# Altium schematic symbol library Regulator_Switching.SchLib: 1279 symbols (part 4 of 14)
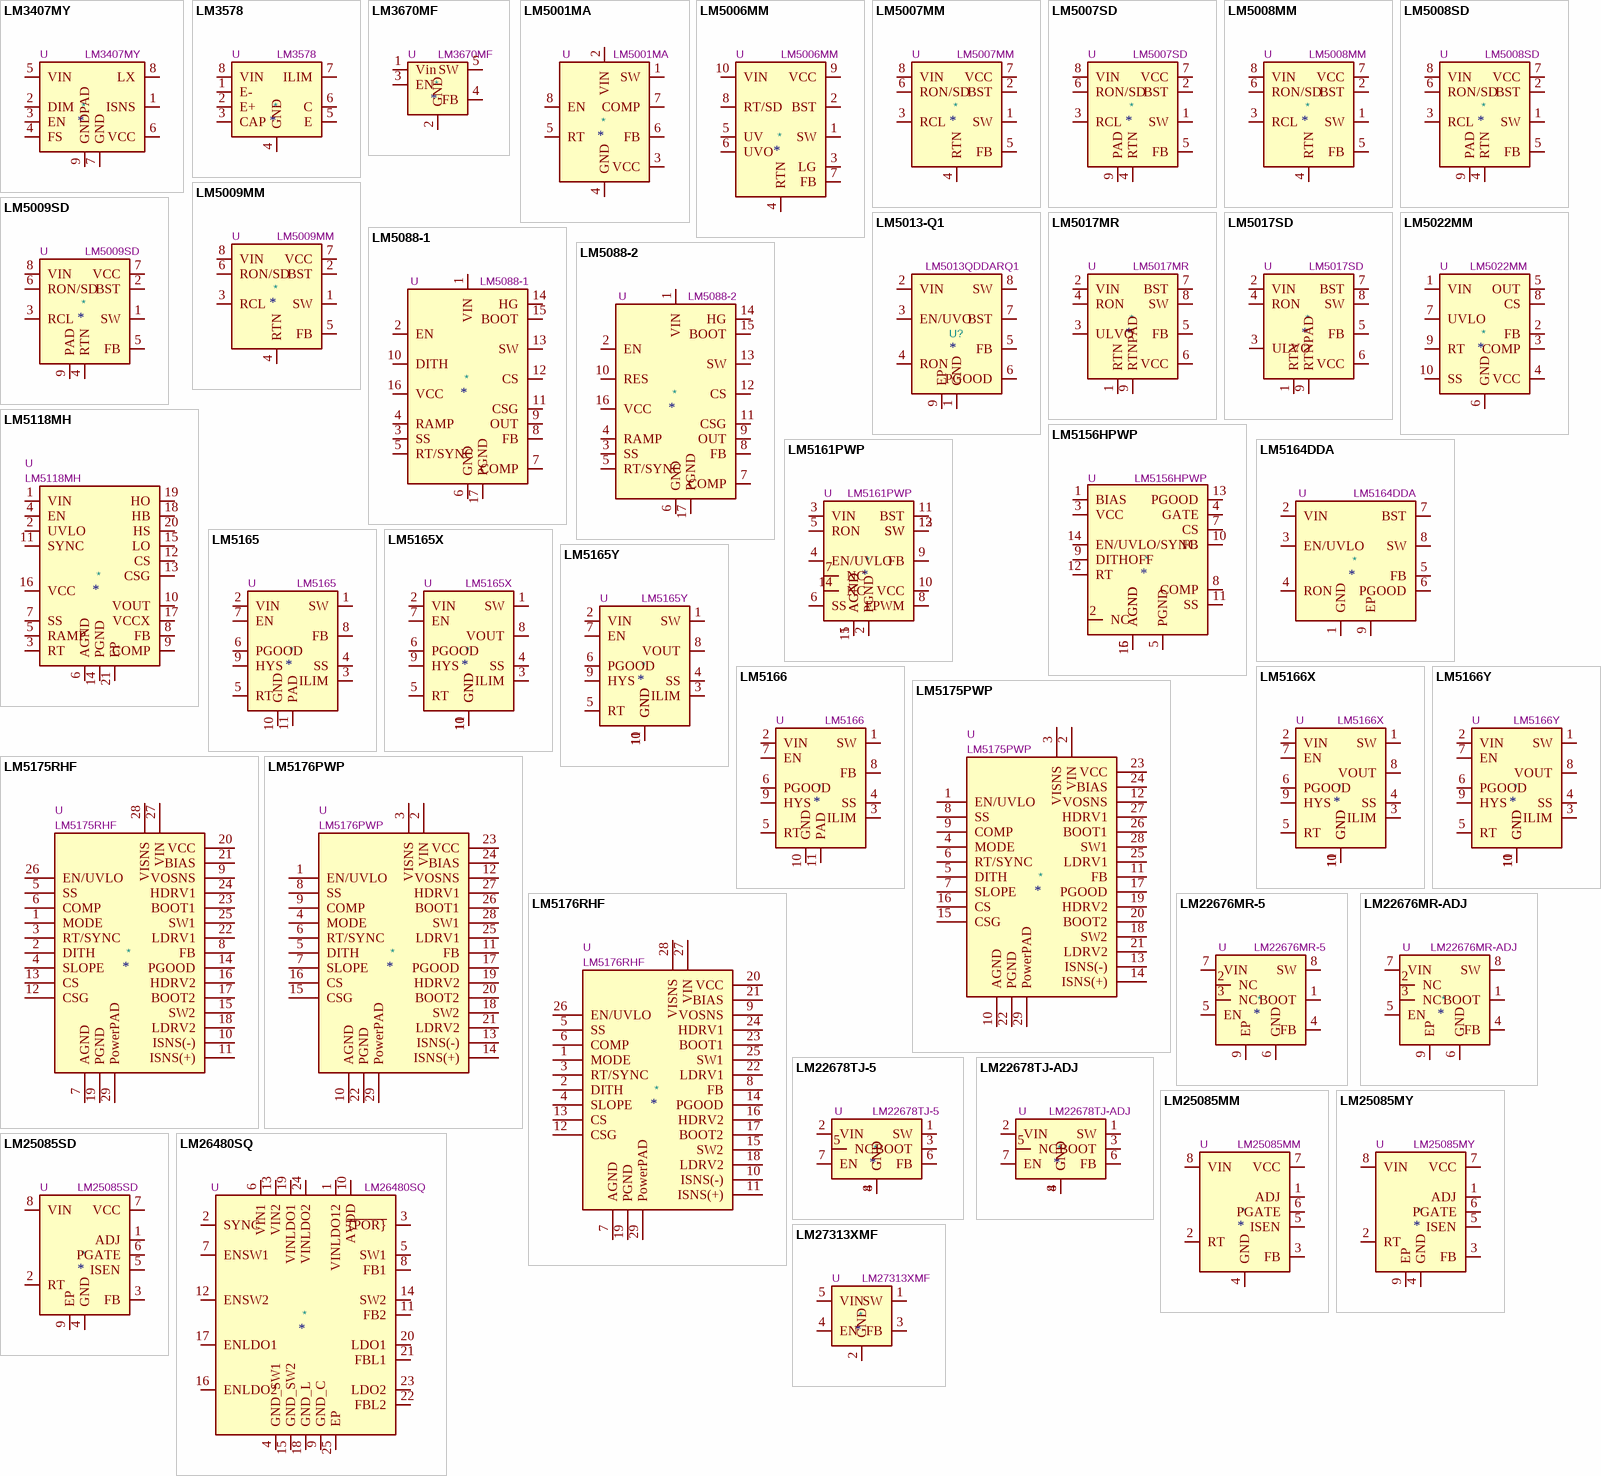
[diagram p35: symbols LM3407MY to LM27313XMF]

## LM5176RHF
designator *  value LM5176RHF  Reference: U
55-V wide Vin synchronous 4-switch Buck-Boost controller, QFN-28 package; ki_keywords: Buck Boost step-up step-down; ki_fp_filters: VQFN*4x5mm*P0.5*; Footprint: Package_DFN_QFN:VQFN-28-1EP_4x5mm_P0.5mm_EP2.55x3.55mm; Datasheet: http://www.ti.com/lit/ds/symlink/lm5176.pdf; Description_: 55-V wide Vin synchronous 4-switch Buck-Boost controller, QFN-28 package
pins: 1 MODE, 2 DITH, 3 RT/SYNC, 4 SLOPE, 5 SS, 6 COMP, 7 AGND, 8 FB, 9 VOSNS, 10 ISNS(-), 11 ISNS(+), 12 CSG, 13 CS, 14 PGOOD, 15 SW2, 16 HDRV2, 17 BOOT2, 18 LDRV2, 19 PGND, 20 VCC, 21 BIAS, 22 LDRV1, 23 BOOT1, 24 HDRV1, 25 SW1, 26 EN/UVLO, 27 VIN, 28 VISNS, 29 PowerPAD

## LM22676MR-5
designator *  value LM22676MR-5  Reference: U
3A Step-Down Switching Voltage Regulater, 4.5-42V Input, 5V Output, 500kHz Switching Frequency, SOIC-8; ki_keywords: DC/DC Buck Converter 3A; ki_fp_filters: TI*SO*PowerPAD*; Footprint: Package_SO:TI_SO-PowerPAD-8; Datasheet: http://www.ti.com/lit/ds/symlink/lm22676.pdf; Description_: 3A Step-Down Switching Voltage Regulater, 4.5-42V Input, 5V Output, 500kHz Switching Frequency, SOIC-8
pins: 1 BOOT, 2 NC, 3 NC, 4 FB, 5 EN, 6 GND, 7 VIN, 8 SW, 9 EP

## LM22676MR-ADJ
designator *  value LM22676MR-ADJ  Reference: U
3A Step-Down Switching Voltage Regulater, 4.5-42V Input, Adjustable Output, 500kHz Switching Frequency, SOIC-8; ki_keywords: DC/DC Buck Converter 3A; ki_fp_filters: TI*SO*PowerPAD*; Footprint: Package_SO:TI_SO-PowerPAD-8; Datasheet: http://www.ti.com/lit/ds/symlink/lm22676.pdf; Description_: 3A Step-Down Switching Voltage Regulater, 4.5-42V Input, Adjustable Output, 500kHz Switching Frequency, SOIC-8
pins: 1 BOOT, 2 NC, 3 NC, 4 FB, 5 EN, 6 GND, 7 VIN, 8 SW, 9 EP

## LM22678TJ-5
designator *  value LM22678TJ-5  Reference: U
5A Step-Down Switching Voltage Regulater, 4.5-42V Input, 5V Output, 500kHz Switching Frequency, TO-263; ki_keywords: DC/DC Buck Converter 5A; ki_fp_filters: TO?263*; Footprint: Package_TO_SOT_SMD:TO-263-7_TabPin8; Datasheet: https://www.ti.com/lit/ds/symlink/lm22678.pdf; Description_: 5A Step-Down Switching Voltage Regulater, 4.5-42V Input, 5V Output, 500kHz Switching Frequency, TO-263
pins: 1 SW, 2 VIN, 3 BOOT, 4 GND, 5 NC, 6 FB, 7 EN, 8 GND

## LM22678TJ-ADJ
designator *  value LM22678TJ-ADJ  Reference: U
5A Step-Down Switching Voltage Regulater, 4.5-42V Input, Adjustable Output, 500kHz Switching Frequency, TO-263; ki_keywords: DC/DC Buck Converter 5A; ki_fp_filters: TO?263*; Footprint: Package_TO_SOT_SMD:TO-263-7_TabPin8; Datasheet: https://www.ti.com/lit/ds/symlink/lm22678.pdf; Description_: 5A Step-Down Switching Voltage Regulater, 4.5-42V Input, Adjustable Output, 500kHz Switching Frequency, TO-263
pins: 1 SW, 2 VIN, 3 BOOT, 4 GND, 5 NC, 6 FB, 7 EN, 8 GND

## LM25085MM
designator *  value LM25085MM  Reference: U
42V Constant On-Time PFET Buck Switching Controller, MSOP-8; ki_fp_filters: MSOP*3x3mm*P0.65mm*; Footprint: Package_SO:MSOP-8_3x3mm_P0.65mm; Datasheet: http://www.ti.com/lit/ds/symlink/lm25085.pdf; Description_: 42V Constant On-Time PFET Buck Switching Controller, MSOP-8; ki_keywords: buck switching controller
pins: 1 ADJ, 2 RT, 3 FB, 4 GND, 5 ISEN, 6 PGATE, 7 VCC, 8 VIN

## LM25085MY
designator *  value LM25085MY  Reference: U
42V Constant On-Time PFET Buck Switching Controller, MSOP-8-EP; ki_fp_filters: MSOP*1EP*3x3mm*P0.65mm*; Footprint: Package_SO:MSOP-8-1EP_3x3mm_P0.65mm_EP1.73x1.85mm_ThermalVias; Datasheet: http://www.ti.com/lit/ds/symlink/lm25085.pdf; Description_: 42V Constant On-Time PFET Buck Switching Controller, MSOP-8-EP; ki_keywords: buck switching controller
pins: 1 ADJ, 2 RT, 3 FB, 4 GND, 5 ISEN, 6 PGATE, 7 VCC, 8 VIN, 9 EP

## LM25085SD
designator *  value LM25085SD  Reference: U
42V Constant On-Time PFET Buck Switching Controller, WSON-8; ki_fp_filters: WSON*1EP*3x3mm*P0.5mm*EP1.6x2.0mm*; Footprint: Package_SON:WSON-8-1EP_3x3mm_P0.5mm_EP1.6x2.0mm; Datasheet: http://www.ti.com/lit/ds/symlink/lm25085.pdf; Description_: 42V Constant On-Time PFET Buck Switching Controller, WSON-8; ki_keywords: buck switching controller
pins: 1 ADJ, 2 RT, 3 FB, 4 GND, 5 ISEN, 6 PGATE, 7 VCC, 8 VIN, 9 EP

## LM26480SQ
designator *  value LM26480SQ  Reference: U
Dual 1.5A 2MHz Buck Regulators and Dual 300mA LDOs, WQFN-24; ki_keywords: Dual Buck Regulator LDO 2MHz 1.5A 300mA; ki_fp_filters: WQFN*1EP*4x4mm*P0.5mm*; Footprint: Package_DFN_QFN:WQFN-24-1EP_4x4mm_P0.5mm_EP2.6x2.6mm; Datasheet: http://www.ti.com/lit/ds/symlink/lm26480.pdf; Description_: Dual 1.5A 2MHz Buck Regulators and Dual 300mA LDOs, WQFN-24
pins: 1 VINLDO12, 2 SYNC, 3 ~{{POR}}, 4 GND_SW1, 5 SW1, 6 VIN1, 7 ENSW1, 8 FB1, 9 GND_C, 10 AVDD, 11 FB2, 12 ENSW2, 13 VIN2, 14 SW2, 15 GND_SW2, 16 ENLDO2, 17 ENLDO1, 18 GND_L, 19 VINLDO1, 20 LDO1, 21 FBL1, 22 FBL2, 23 LDO2, 24 VINLDO2, 25 EP

## LM27313XMF
designator *  value LM27313XMF  Reference: U
1A, 28Vout Boost Voltage Regulator, 1.6MHz Frequency, SOT-23-5; ki_keywords: Miniature Step-Up Boost Voltage Regulator; ki_fp_filters: SOT?23*; Footprint: Package_TO_SOT_SMD:SOT-23-5; Datasheet: http://www.ti.com/lit/ds/symlink/lm27313.pdf; Description_: 1A, 28Vout Boost Voltage Regulator, 1.6MHz Frequency, SOT-23-5
pins: 1 SW, 2 GND, 3 FB, 4 EN, 5 VIN

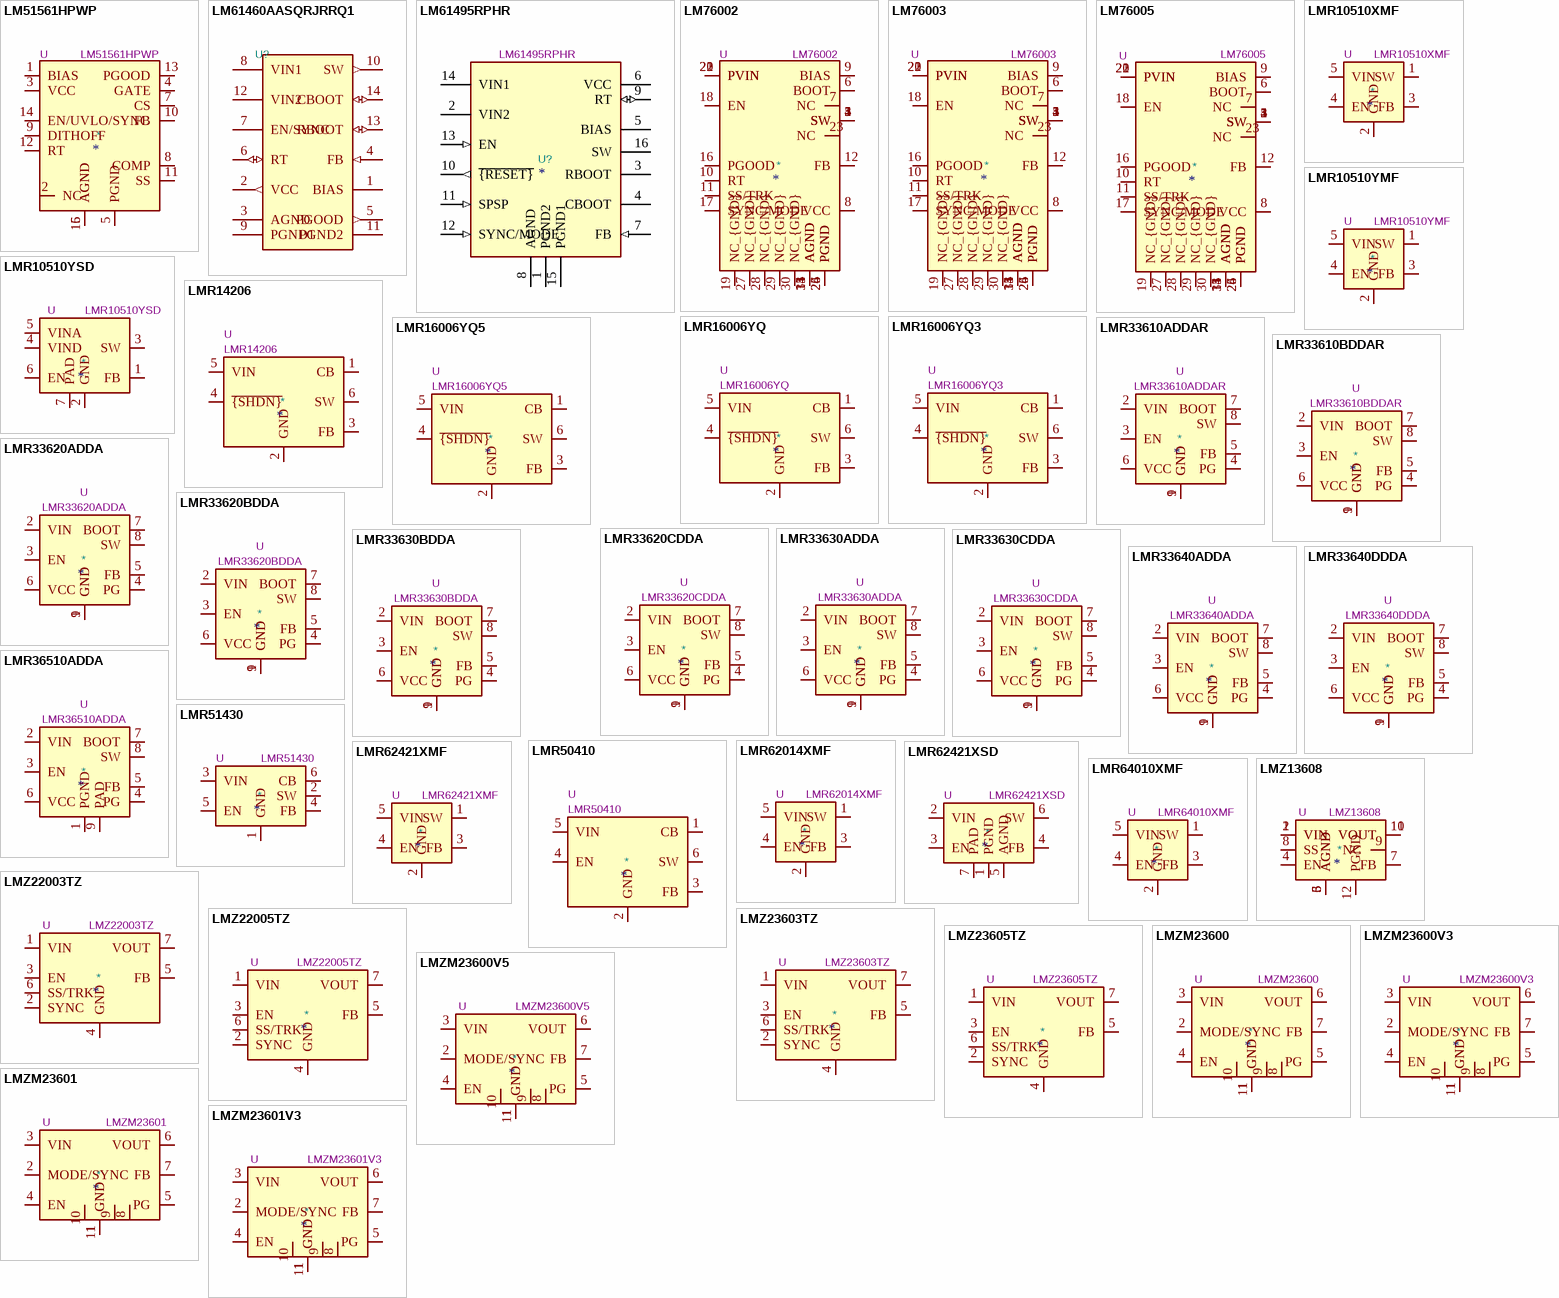
[diagram p8: symbols LM51561HPWP to LMZM23601V3]

## LM51561HPWP
designator *  value LM51561HPWP  Reference: U
65V Wide Vin non-synchronous Boost/SEPIC/Flyback controller (hiccup enabled), HTSSOP-14; ki_keywords: Boost SEPIC Flyback converter; ki_fp_filters: *HTSSOP*1EP?4.4x5mm?P0.65mm*Mask3.155x3.255mm*; Footprint: Package_SO:Texas_HTSSOP-14-1EP_4.4x5mm_P0.65mm_EP3.4x5mm_Mask3.155x3.255mm_ThermalVias; Datasheet: https://www.ti.com/lit/ds/symlink/lm5156h.pdf; Description_: 65V Wide Vin non-synchronous Boost/SEPIC/Flyback controller (hiccup enabled), HTSSOP-14
pins: 1 BIAS, 2 NC, 3 VCC, 4 GATE, 5 PGND, 6 AGND, 7 CS, 8 COMP, 9 DITHOFF, 10 FB, 11 SS, 12 RT, 13 PGOOD, 14 EN/UVLO/SYNC, 15 AGND

## LM61460AASQRJRRQ1
designator U?  (value not drawn)
Manufacturer: Texas Instruments; Manufacturer Lifecycle Status: ACTIVE; Description_: 0.5A 5V Step-Down DC/DC Power Module in 3.8x3mm, MicroSIP-10; ki_keywords: Step-Down DC/DC Module; ki_fp_filters: Texas*SIL*1EP*3.8x3mm*P0.6mm*; Max Duty Cycle: 87%; Max Junction Temperature (Tj): 150°C; Max Supply Voltage: 36V; Min Supply Voltage: 3V; Nominal Supply Current: 600nA; Number of Outputs: 1; Output Current: 6A; Topology: Buck; DNP: No; Reference: U; Footprint: Package_LGA:Texas_SIL0010A_MicroSiP-10-1EP_3.8x3mm_P0.6mm_EP0.7x2.9mm_ThermalVias; Datasheet: http://www.ti.com/lit/ds/symlink/lmzm23600.pdf; Category: Voltage Regulators - Switching; Height: 1mm; Length: 4mm; Lifecycle Status: Production; Manufacturer Part Number: LM61460AASQRJRRQ1; Max Operating Temperature: 150°C; Min Operating Temperature: -40°C; Pins: 14; RoHS: Compliant; Schedule B: 8542390000|8542390000|8542390000|8542390000|8542390000; Thickness: 900µm; Width: 3.5mm; Supplier 1: Mouser; Supplier Part Number 1: 595-M61460AASQRJRRQ1; Supplier Packaging 1: Tape & Reel; Supplier Unit Price 1: $5.93; Supplier Location 1: US; Value: LM61460AASQRJRRQ1
footprint VQFN-HR-14-4x3.50mm_P0.5mm
pins: 1 BIAS (power), 2 VCC (out), 3 AGND (power), 4 FB (in), 5 PGOOD (out), 6 RT (io), 7 EN/SYNC, 8 VIN1 (power), 9 PGND1 (power), 10 SW (out), 11 PGND2 (power), 12 VIN2 (power), 13 RBOOT (io), 14 CBOOT (io)

## LM61495RPHR
designator U?  value LM61495RPHR
10-A automotive buck converter optimized for power density and low EMI; Manufacturer: Texas Instruments; Manufacturer Lifecycle Status: ACTIVE; ki_keywords: Step-Down DC/DC Module; ki_fp_filters: Texas*NDW*; Reference: U; DNP: P; Datasheet: https://www.ti.com/product/LM61495#order-quality; Description_: 10-A automotive buck converter optimized for power density and low EMI; Category: Voltage Regulators - Switching; Height: 1mm; Length: 4.5mm; Lifecycle Status: Production; Manufacturer Part Number: LM61495RPHR; Pins: 16; RoHS: Compliant; Thickness: 900µm; Topology: Buck; Width: 3.5mm; Supplier 1: Mouser; Supplier Part Number 1: 595-LM61495RPHR; Supplier Packaging 1: Tape & Reel; Supplier Unit Price 1: $5.83; Supplier Location 1: US
footprint VQFN-16-1EP_4x4mm_P0.5mm_RPH
pins: 1 PGND2 (power), 2 VIN2 (power), 3 RBOOT, 4 CBOOT, 5 BIAS, 6 VCC (power), 7 FB (in), 8 AGND (power), 9 RT (io), 10 ~{{RESET}} (out), 11 SPSP (in), 12 SYNC/MODE (in), 13 EN (in), 14 VIN1 (power), 15 PGND1 (power), 16 SW

## LM76002
designator *  value LM76002  Reference: U
2.5A synchronous buck regulator, 3.5..60Vin, 300kHz..2.2MHz switching frequency, CCM/DCM & PFM at light load, WQFN-30; ki_keywords: texas switching step-down; ki_fp_filters: Texas*RNP0030B*4x6mm*P0.5mm*EP1.8x4.5mm*; Footprint: Package_DFN_QFN:Texas_RNP0030B_WQFN-30-1EP_4x6mm_P0.5mm_EP1.8x4.5mm_ThermalVias; Datasheet: https://www.ti.com/lit/ds/symlink/lm76002.pdf; Description_: 2.5A synchronous buck regulator, 3.5..60Vin, 300kHz..2.2MHz switching frequency, CCM/DCM & PFM at light load, WQFN-30
pins: 1 SW, 2 SW, 3 SW, 4 SW, 5 SW, 6 BOOT, 7 NC, 8 VCC, 9 BIAS, 10 RT, 11 SS/TRK, 12 FB, 13 AGND, 14 AGND, 15 AGND, 16 PGOOD, 17 SYNC/MODE, 18 EN, 19 NC_{GND}, 20 PVIN, 21 PVIN, 22 PVIN, 23 NC, 24 PGND, 25 PGND, 26 PGND, 27 NC_{GND}, 28 NC_{GND}, 29 NC_{GND}, 30 NC_{GND}, 31 AGND

## LM76003
designator *  value LM76003  Reference: U
3.5A synchronous buck regulator, 3.5..60Vin, 300kHz..2.2MHz switching frequency, CCM/DCM & PFM at light load, WQFN-30; ki_keywords: texas switching step-down; ki_fp_filters: Texas*RNP0030B*4x6mm*P0.5mm*EP1.8x4.5mm*; Footprint: Package_DFN_QFN:Texas_RNP0030B_WQFN-30-1EP_4x6mm_P0.5mm_EP1.8x4.5mm_ThermalVias; Datasheet: https://www.ti.com/lit/ds/symlink/lm76003.pdf; Description_: 3.5A synchronous buck regulator, 3.5..60Vin, 300kHz..2.2MHz switching frequency, CCM/DCM & PFM at light load, WQFN-30
pins: 1 SW, 2 SW, 3 SW, 4 SW, 5 SW, 6 BOOT, 7 NC, 8 VCC, 9 BIAS, 10 RT, 11 SS/TRK, 12 FB, 13 AGND, 14 AGND, 15 AGND, 16 PGOOD, 17 SYNC/MODE, 18 EN, 19 NC_{GND}, 20 PVIN, 21 PVIN, 22 PVIN, 23 NC, 24 PGND, 25 PGND, 26 PGND, 27 NC_{GND}, 28 NC_{GND}, 29 NC_{GND}, 30 NC_{GND}, 31 AGND

## LM76005
designator *  value LM76005  Reference: U
5A synchronous buck regulator, 3.5..60Vin, 200kHz..500kHz switching frequency, CCM/DCM & PFM at light load, WQFN-30; ki_keywords: texas switching step-down; ki_fp_filters: Texas*RNP0030B*4x6mm*P0.5mm*EP1.8x4.5mm*; Footprint: Package_DFN_QFN:Texas_RNP0030B_WQFN-30-1EP_4x6mm_P0.5mm_EP1.8x4.5mm_ThermalVias; Datasheet: https://www.ti.com/lit/ds/symlink/lm76005.pdf; Description_: 5A synchronous buck regulator, 3.5..60Vin, 200kHz..500kHz switching frequency, CCM/DCM & PFM at light load, WQFN-30
pins: 1 SW, 2 SW, 3 SW, 4 SW, 5 SW, 6 BOOT, 7 NC, 8 VCC, 9 BIAS, 10 RT, 11 SS/TRK, 12 FB, 13 AGND, 14 AGND, 15 AGND, 16 PGOOD, 17 SYNC/MODE, 18 EN, 19 NC_{GND}, 20 PVIN, 21 PVIN, 22 PVIN, 23 NC, 24 PGND, 25 PGND, 26 PGND, 27 NC_{GND}, 28 NC_{GND}, 29 NC_{GND}, 30 NC_{GND}, 31 AGND

## LMR10510XMF
designator *  value LMR10510XMF  Reference: U
1A, 5.5V Step-Down Voltage Regulator, 1.6MHz Frequency, SOT-23-5; ki_keywords: Miniature Step-Down Buck Voltage Regulator; ki_fp_filters: SOT?23*; Footprint: Package_TO_SOT_SMD:SOT-23-5; Datasheet: http://www.ti.com/lit/ds/symlink/lmr10510.pdf; Description_: 1A, 5.5V Step-Down Voltage Regulator, 1.6MHz Frequency, SOT-23-5
pins: 1 SW, 2 GND, 3 FB, 4 EN, 5 VIN

## LMR10510YMF
designator *  value LMR10510YMF  Reference: U
1A, 5.5V Step-Down Voltage Regulator, 3MHz Frequency, SOT-23-5; ki_keywords: Miniature Step-Down Buck Voltage Regulator; ki_fp_filters: SOT?23*; Footprint: Package_TO_SOT_SMD:SOT-23-5; Datasheet: http://www.ti.com/lit/ds/symlink/lmr10510.pdf; Description_: 1A, 5.5V Step-Down Voltage Regulator, 3MHz Frequency, SOT-23-5
pins: 1 SW, 2 GND, 3 FB, 4 EN, 5 VIN

## LMR10510YSD
designator *  value LMR10510YSD  Reference: U
1A, 5.5V Step-Down Voltage Regulator, 3MHz Frequency, WSON-6; ki_keywords: Miniature Step-Down Buck Voltage Regulator; ki_fp_filters: WSON*EP*3x3mm*P0.95mm*; Footprint: Package_SON:WSON-6-1EP_3x3mm_P0.95mm; Datasheet: http://www.ti.com/lit/ds/symlink/lmr10510.pdf; Description_: 1A, 5.5V Step-Down Voltage Regulator, 3MHz Frequency, WSON-6
pins: 1 FB, 2 GND, 3 SW, 4 VIND, 5 VINA, 6 EN, 7 PAD

## LMR14206
designator *  value LMR14206  Reference: U
Simple Switcher Buck Regulator, Vin=4.5-42V, Iout=600mA, Adjustable output voltage, SOT-23-6 package; ki_keywords: simple-switcher buck step-down voltage-regulator; ki_fp_filters: SOT?23*; Footprint: Package_TO_SOT_SMD:SOT-23-6; Datasheet: http://www.ti.com/lit/ds/symlink/lmr14206.pdf; Description_: Simple Switcher Buck Regulator, Vin=4.5-42V, Iout=600mA, Adjustable output voltage, SOT-23-6 package
pins: 1 CB, 2 GND, 3 FB, 4 ~{{SHDN}}, 5 VIN, 6 SW

## LMR16006YQ
designator *  value LMR16006YQ  Reference: U
Simple Switcher Buck Regulator, Vin=4-40V, Iout=600mA, Adjustable output voltage, SOT-23-6 package; ki_keywords: simple-switcher buck step-down voltage-regulator; ki_fp_filters: SOT?23*; Footprint: Package_TO_SOT_SMD:SOT-23-6; Datasheet: http://www.ti.com/lit/ds/symlink/lmr16006y-q1.pdf; Description_: Simple Switcher Buck Regulator, Vin=4-40V, Iout=600mA, Adjustable output voltage, SOT-23-6 package
pins: 1 CB, 2 GND, 3 FB, 4 ~{{SHDN}}, 5 VIN, 6 SW

## LMR16006YQ3
designator *  value LMR16006YQ3  Reference: U
Simple Switcher Buck Regulator, Vin=4-40V, Iout=600mA, Fixed 3.3V output voltage, SOT-23-6 package; ki_keywords: simple-switcher buck step-down voltage-regulator; ki_fp_filters: SOT?23*; Footprint: Package_TO_SOT_SMD:SOT-23-6; Datasheet: http://www.ti.com/lit/ds/symlink/lmr16006y-q1.pdf; Description_: Simple Switcher Buck Regulator, Vin=4-40V, Iout=600mA, Fixed 3.3V output voltage, SOT-23-6 package
pins: 1 CB, 2 GND, 3 FB, 4 ~{{SHDN}}, 5 VIN, 6 SW

## LMR16006YQ5
designator *  value LMR16006YQ5  Reference: U
Simple Switcher Buck Regulator, Vin=4-40V, Iout=600mA, Fixed 5.0V output voltage, SOT-23-6 package; ki_keywords: simple-switcher buck step-down voltage-regulator; ki_fp_filters: SOT?23*; Footprint: Package_TO_SOT_SMD:SOT-23-6; Datasheet: http://www.ti.com/lit/ds/symlink/lmr16006y-q1.pdf; Description_: Simple Switcher Buck Regulator, Vin=4-40V, Iout=600mA, Fixed 5.0V output voltage, SOT-23-6 package
pins: 1 CB, 2 GND, 3 FB, 4 ~{{SHDN}}, 5 VIN, 6 SW

## LMR33610ADDAR
designator *  value LMR33610ADDAR  Reference: U
Simple Switcher Synchronous Buck Regulator, Vin=3.8-36V, Iout=1A, F=400kHz, Adjustable output voltage, HSOP-8; ki_keywords: simple-switcher synchronous buck step-down voltage-regulator; ki_fp_filters: Texas*HSOP*1EP*; Footprint: Package_SO:Texas_HSOP-8-1EP_3.9x4.9mm_P1.27mm_ThermalVias; Datasheet: http://www.ti.com/lit/ds/symlink/lmr33610.pdf; Description_: Simple Switcher Synchronous Buck Regulator, Vin=3.8-36V, Iout=1A, F=400kHz, Adjustable output voltage, HSOP-8
pins: 1 GND, 2 VIN, 3 EN, 4 PG, 5 FB, 6 VCC, 7 BOOT, 8 SW, 9 GND

## LMR33610BDDAR
designator *  value LMR33610BDDAR  Reference: U
Simple Switcher Synchronous Buck Regulator, Vin=3.8-36V, Iout=1A, F=1400kHz, Adjustable output voltage, HSOP-8; ki_keywords: simple-switcher synchronous buck step-down voltage-regulator; ki_fp_filters: Texas*HSOP*1EP*; Footprint: Package_SO:Texas_HSOP-8-1EP_3.9x4.9mm_P1.27mm_ThermalVias; Datasheet: http://www.ti.com/lit/ds/symlink/lmr33610.pdf; Description_: Simple Switcher Synchronous Buck Regulator, Vin=3.8-36V, Iout=1A, F=1400kHz, Adjustable output voltage, HSOP-8
pins: 1 GND, 2 VIN, 3 EN, 4 PG, 5 FB, 6 VCC, 7 BOOT, 8 SW, 9 GND

## LMR33620ADDA
designator *  value LMR33620ADDA  Reference: U
Simple Switcher Synchronous Buck Regulator, Vin=3.8-36V, Iout=2A, F=400kHz, Adjustable output voltage, HSOP-8; ki_keywords: simple-switcher synchronous buck step-down voltage-regulator; ki_fp_filters: Texas*HSOP*1EP*; Footprint: Package_SO:Texas_HSOP-8-1EP_3.9x4.9mm_P1.27mm_ThermalVias; Datasheet: http://www.ti.com/lit/ds/symlink/lmr33620.pdf; Description_: Simple Switcher Synchronous Buck Regulator, Vin=3.8-36V, Iout=2A, F=400kHz, Adjustable output voltage, HSOP-8
pins: 1 GND, 2 VIN, 3 EN, 4 PG, 5 FB, 6 VCC, 7 BOOT, 8 SW, 9 GND

## LMR33620BDDA
designator *  value LMR33620BDDA  Reference: U
Simple Switcher Synchronous Buck Regulator, Vin=3.8-36V, Iout=2A, F=1400kHz, Adjustable output voltage, HSOP-8; ki_keywords: simple-switcher synchronous buck step-down voltage-regulator; ki_fp_filters: Texas*HSOP*1EP*; Footprint: Package_SO:Texas_HSOP-8-1EP_3.9x4.9mm_P1.27mm_ThermalVias; Datasheet: http://www.ti.com/lit/ds/symlink/lmr33620.pdf; Description_: Simple Switcher Synchronous Buck Regulator, Vin=3.8-36V, Iout=2A, F=1400kHz, Adjustable output voltage, HSOP-8
pins: 1 GND, 2 VIN, 3 EN, 4 PG, 5 FB, 6 VCC, 7 BOOT, 8 SW, 9 GND

## LMR33620CDDA
designator *  value LMR33620CDDA  Reference: U
Simple Switcher Synchronous Buck Regulator, Vin=3.8-36V, Iout=2A, F=2100kHz, Adjustable output voltage, HSOP-8; ki_keywords: simple-switcher synchronous buck step-down voltage-regulator; ki_fp_filters: Texas*HSOP*1EP*; Footprint: Package_SO:Texas_HSOP-8-1EP_3.9x4.9mm_P1.27mm_ThermalVias; Datasheet: http://www.ti.com/lit/ds/symlink/lmr33640.pdf; Description_: Simple Switcher Synchronous Buck Regulator, Vin=3.8-36V, Iout=2A, F=2100kHz, Adjustable output voltage, HSOP-8
pins: 1 GND, 2 VIN, 3 EN, 4 PG, 5 FB, 6 VCC, 7 BOOT, 8 SW, 9 GND

## LMR33630ADDA
designator *  value LMR33630ADDA  Reference: U
Simple Switcher Synchronous Buck Regulator, Vin=3.8-36V, Iout=3A, F=400kHz, Adjustable output voltage, HSOP-8; ki_keywords: simple-switcher synchronous buck step-down voltage-regulator; ki_fp_filters: Texas*HSOP*1EP*; Footprint: Package_SO:Texas_HSOP-8-1EP_3.9x4.9mm_P1.27mm_ThermalVias; Datasheet: http://www.ti.com/lit/ds/symlink/lmr33630.pdf; Description_: Simple Switcher Synchronous Buck Regulator, Vin=3.8-36V, Iout=3A, F=400kHz, Adjustable output voltage, HSOP-8
pins: 1 GND, 2 VIN, 3 EN, 4 PG, 5 FB, 6 VCC, 7 BOOT, 8 SW, 9 GND

## LMR33630BDDA
designator *  value LMR33630BDDA  Reference: U
Simple Switcher Synchronous Buck Regulator, Vin=3.8-36V, Iout=3A, F=1400kHz, Adjustable output voltage, HSOP-8; ki_keywords: simple-switcher synchronous buck step-down voltage-regulator; ki_fp_filters: Texas*HSOP*1EP*; Footprint: Package_SO:Texas_HSOP-8-1EP_3.9x4.9mm_P1.27mm_ThermalVias; Datasheet: http://www.ti.com/lit/ds/symlink/lmr33630.pdf; Description_: Simple Switcher Synchronous Buck Regulator, Vin=3.8-36V, Iout=3A, F=1400kHz, Adjustable output voltage, HSOP-8
pins: 1 GND, 2 VIN, 3 EN, 4 PG, 5 FB, 6 VCC, 7 BOOT, 8 SW, 9 GND

## LMR33630CDDA
designator *  value LMR33630CDDA  Reference: U
Simple Switcher Synchronous Buck Regulator, Vin=3.8-36V, Iout=3A, F=2100kHz, Adjustable output voltage, HSOP-8; ki_keywords: simple-switcher synchronous buck step-down voltage-regulator; ki_fp_filters: Texas*HSOP*1EP*; Footprint: Package_SO:Texas_HSOP-8-1EP_3.9x4.9mm_P1.27mm_ThermalVias; Datasheet: http://www.ti.com/lit/ds/symlink/lmr33630.pdf; Description_: Simple Switcher Synchronous Buck Regulator, Vin=3.8-36V, Iout=3A, F=2100kHz, Adjustable output voltage, HSOP-8
pins: 1 GND, 2 VIN, 3 EN, 4 PG, 5 FB, 6 VCC, 7 BOOT, 8 SW, 9 GND

## LMR33640ADDA
designator *  value LMR33640ADDA  Reference: U
Simple Switcher Synchronous Buck Regulator, Vin=3.8-36V, Iout=4A, F=400kHz, Adjustable output voltage, HSOP-8; ki_keywords: simple-switcher synchronous buck step-down voltage-regulator; ki_fp_filters: Texas*HSOP*1EP*; Footprint: Package_SO:Texas_HSOP-8-1EP_3.9x4.9mm_P1.27mm_ThermalVias; Datasheet: http://www.ti.com/lit/ds/symlink/lmr33640.pdf; Description_: Simple Switcher Synchronous Buck Regulator, Vin=3.8-36V, Iout=4A, F=400kHz, Adjustable output voltage, HSOP-8
pins: 1 GND, 2 VIN, 3 EN, 4 PG, 5 FB, 6 VCC, 7 BOOT, 8 SW, 9 GND

## LMR33640DDDA
designator *  value LMR33640DDDA  Reference: U
Simple Switcher Synchronous Buck Regulator, Vin=3.8-36V, Iout=4A, F=1000kHz, Adjustable output voltage, HSOP-8; ki_keywords: simple-switcher synchronous buck step-down voltage-regulator; ki_fp_filters: Texas*HSOP*1EP*; Footprint: Package_SO:Texas_HSOP-8-1EP_3.9x4.9mm_P1.27mm_ThermalVias; Datasheet: http://www.ti.com/lit/ds/symlink/lmr33640.pdf; Description_: Simple Switcher Synchronous Buck Regulator, Vin=3.8-36V, Iout=4A, F=1000kHz, Adjustable output voltage, HSOP-8
pins: 1 GND, 2 VIN, 3 EN, 4 PG, 5 FB, 6 VCC, 7 BOOT, 8 SW, 9 GND

## LMR36510ADDA
designator *  value LMR36510ADDA  Reference: U
Simple Switcher Synchronous Buck Regulator, Vin=4.2-65V, Iout=1A, F=400kHz, Adjustable output voltage, HSOP-8; ki_keywords: synchronous buck step-down; ki_fp_filters: Texas*HTSOP*1EP*3.9x4.9mm*P1.27mm*EP2.95x4.9mm*Mask2.4x3.1mm*; Footprint: Package_SO:Texas_HTSOP-8-1EP_3.9x4.9mm_P1.27mm_EP2.95x4.9mm_Mask2.4x3.1mm_ThermalVias; Datasheet: http://www.ti.com/lit/ds/symlink/lmr36510.pdf; Description_: Simple Switcher Synchronous Buck Regulator, Vin=4.2-65V, Iout=1A, F=400kHz, Adjustable output voltage, HSOP-8
pins: 1 PGND, 2 VIN, 3 EN, 4 PG, 5 FB, 6 VCC, 7 BOOT, 8 SW, 9 PAD

## LMR50410
designator *  value LMR50410  Reference: U
Simple Switcher Buck Regulator, Vin=4-36V, Iout=1A, Adjustable output voltage, SOT-23-6 package; ki_keywords: simple-switcher buck step-down voltage-regulator; ki_fp_filters: SOT?23*; Footprint: Package_TO_SOT_SMD:SOT-23-6; Datasheet: http://www.ti.com/lit/ds/symlink/lmr50410.pdf; Description_: Simple Switcher Buck Regulator, Vin=4-36V, Iout=1A, Adjustable output voltage, SOT-23-6 package
pins: 1 CB, 2 GND, 3 FB, 4 EN, 5 VIN, 6 SW

## LMR51430
designator *  value LMR51430  Reference: U
4.5-V to 36-V, 3-A synchronous buck converter with 40-µA IQ, SOT-23-6; ki_keywords: switching buck converter power-supply voltage regulator; ki_fp_filters: SOT?23*; Footprint: Package_TO_SOT_SMD:SOT-23-6; Datasheet: https://www.ti.com/lit/ds/symlink/lmr51430.pdf; Description_: 4.5-V to 36-V, 3-A synchronous buck converter with 40-µA IQ, SOT-23-6
pins: 1 GND, 2 SW, 3 VIN, 4 FB, 5 EN, 6 CB

## LMR62014XMF
designator *  value LMR62014XMF  Reference: U
1.4A, 20Vout Step-Up Voltage Regulator, 1.6MHz Frequency, SOT-23-5; ki_keywords: Miniature Step-Up Boost Voltage Regulator; ki_fp_filters: SOT?23*; Footprint: Package_TO_SOT_SMD:SOT-23-5; Datasheet: http://www.ti.com/lit/ds/symlink/lmr62014.pdf; Description_: 1.4A, 20Vout Step-Up Voltage Regulator, 1.6MHz Frequency, SOT-23-5
pins: 1 SW, 2 GND, 3 FB, 4 EN, 5 VIN

## LMR62421XMF
designator *  value LMR62421XMF  Reference: U
2.1A, 24Vout Boost/SEPIC Voltage Regulator, 1.6MHz Frequency, SOT-23-5; ki_keywords: Miniature Step-Up Boost SEPIC Voltage Regulator; ki_fp_filters: SOT?23*; Footprint: Package_TO_SOT_SMD:SOT-23-5; Datasheet: http://www.ti.com/lit/ds/symlink/lmr62421.pdf; Description_: 2.1A, 24Vout Boost/SEPIC Voltage Regulator, 1.6MHz Frequency, SOT-23-5
pins: 1 SW, 2 GND, 3 FB, 4 EN, 5 VIN

## LMR62421XSD
designator *  value LMR62421XSD  Reference: U
2.1A, 24Vout Step-Up Voltage Regulator, 1.6MHz Frequency, WSON-6; ki_keywords: Miniature Step-Up Boost SEPIC Voltage Regulator; ki_fp_filters: WSON*EP*3x3mm*P0.95mm*; Footprint: Package_SON:WSON-6-1EP_3x3mm_P0.95mm; Datasheet: http://www.ti.com/lit/ds/symlink/lmr62421.pdf; Description_: 2.1A, 24Vout Step-Up Voltage Regulator, 1.6MHz Frequency, WSON-6
pins: 1 PGND, 2 VIN, 3 EN, 4 FB, 5 AGND, 6 SW, 7 PAD

## LMR64010XMF
designator *  value LMR64010XMF  Reference: U
1A, 40Vout Step-Up Voltage Regulator, 1.6MHz Frequency, SOT-23-5; ki_keywords: Miniature Step-Up Boost Voltage Regulator; ki_fp_filters: SOT?23*; Footprint: Package_TO_SOT_SMD:SOT-23-5; Datasheet: http://www.ti.com/lit/ds/symlink/lmr64010.pdf; Description_: 1A, 40Vout Step-Up Voltage Regulator, 1.6MHz Frequency, SOT-23-5
pins: 1 SW, 2 GND, 3 FB, 4 EN, 5 VIN

## LMZ13608
designator *  value LMZ13608  Reference: U
8A Adjustable Step-Down DC/DC Power Module in 15x15mm, Texas NDY0011A; ki_keywords: Step-Down DC/DC Module; ki_fp_filters: Texas*NDY0011A*; Footprint: Package_TO_SOT_SMD:Texas_NDY0011A; Datasheet: http://www.ti.com/lit/ds/snvs710i/snvs710i.pdf; Description_: 8A Adjustable Step-Down DC/DC Power Module in 15x15mm, Texas NDY0011A
pins: 1 VIN, 2 VIN, 3 AGND, 4 EN, 5 AGND, 6 AGND, 7 FB, 8 SS, 9 NC, 10 VOUT, 11 VOUT, 12 PGND

## LMZ22003TZ
designator *  value LMZ22003TZ  Reference: U
3A Adjustable Step-Down DC/DC Power Module, Vin: 6-20V; ki_keywords: Step-Down DC/DC Module; ki_fp_filters: Texas*NDW*; Footprint: Package_TO_SOT_SMD:Texas_NDW-7_TabPin4; Datasheet: http://www.ti.com/lit/gpn/LMZ22003; Description_: 3A Adjustable Step-Down DC/DC Power Module, Vin: 6-20V
pins: 1 VIN, 2 SYNC, 3 EN, 4 GND, 5 FB, 6 SS/TRK, 7 VOUT

## LMZ22005TZ
designator *  value LMZ22005TZ  Reference: U
5A Adjustable Step-Down DC/DC Power Module, Vin: 6-20V; ki_keywords: Step-Down DC/DC Module; ki_fp_filters: Texas*NDW*; Footprint: Package_TO_SOT_SMD:Texas_NDW-7_TabPin4; Datasheet: http://www.ti.com/lit/gpn/LMZ22005; Description_: 5A Adjustable Step-Down DC/DC Power Module, Vin: 6-20V
pins: 1 VIN, 2 SYNC, 3 EN, 4 GND, 5 FB, 6 SS/TRK, 7 VOUT

## LMZ23603TZ
designator *  value LMZ23603TZ  Reference: U
3A Adjustable Step-Down DC/DC Power Module, Vin: 6-36V; ki_keywords: Step-Down DC/DC Module; ki_fp_filters: Texas*NDW*; Footprint: Package_TO_SOT_SMD:Texas_NDW-7_TabPin4; Datasheet: http://www.ti.com/lit/gpn/lmz23603; Description_: 3A Adjustable Step-Down DC/DC Power Module, Vin: 6-36V
pins: 1 VIN, 2 SYNC, 3 EN, 4 GND, 5 FB, 6 SS/TRK, 7 VOUT

## LMZ23605TZ
designator *  value LMZ23605TZ  Reference: U
5A Adjustable Step-Down DC/DC Power Module, Vin: 6-36V; ki_keywords: Step-Down DC/DC Module; ki_fp_filters: Texas*NDW*; Footprint: Package_TO_SOT_SMD:Texas_NDW-7_TabPin4; Datasheet: http://www.ti.com/lit/gpn/lmz23605; Description_: 5A Adjustable Step-Down DC/DC Power Module, Vin: 6-36V
pins: 1 VIN, 2 SYNC, 3 EN, 4 GND, 5 FB, 6 SS/TRK, 7 VOUT

## LMZM23600
designator *  value LMZM23600  Reference: U
0.5A Adjustable Step-Down DC/DC Power Module in 3.8x3mm, MicroSIP-10; ki_keywords: Step-Down DC/DC Module; ki_fp_filters: Texas*SIL*1EP*3.8x3mm*P0.6mm*; Footprint: Package_LGA:Texas_SIL0010A_MicroSiP-10-1EP_3.8x3mm_P0.6mm_EP0.7x2.9mm_ThermalVias; Datasheet: http://www.ti.com/lit/ds/symlink/lmzm23600.pdf; Description_: 0.5A Adjustable Step-Down DC/DC Power Module in 3.8x3mm, MicroSIP-10
pins: 1 GND, 2 MODE/SYNC, 3 VIN, 4 EN, 5 PG, 6 VOUT, 7 FB, 8, 9, 10, 11 GND

## LMZM23600V3
designator *  value LMZM23600V3  Reference: U
0.5A 3.3V Step-Down DC/DC Power Module in 3.8x3mm, MicroSIP-10; ki_keywords: Step-Down DC/DC Module; ki_fp_filters: Texas*SIL*1EP*3.8x3mm*P0.6mm*; Footprint: Package_LGA:Texas_SIL0010A_MicroSiP-10-1EP_3.8x3mm_P0.6mm_EP0.7x2.9mm_ThermalVias; Datasheet: http://www.ti.com/lit/ds/symlink/lmzm23600.pdf; Description_: 0.5A 3.3V Step-Down DC/DC Power Module in 3.8x3mm, MicroSIP-10
pins: 1 GND, 2 MODE/SYNC, 3 VIN, 4 EN, 5 PG, 6 VOUT, 7 FB, 8, 9, 10, 11 GND

## LMZM23600V5
designator *  value LMZM23600V5  Reference: U
0.5A 5V Step-Down DC/DC Power Module in 3.8x3mm, MicroSIP-10; ki_keywords: Step-Down DC/DC Module; ki_fp_filters: Texas*SIL*1EP*3.8x3mm*P0.6mm*; Footprint: Package_LGA:Texas_SIL0010A_MicroSiP-10-1EP_3.8x3mm_P0.6mm_EP0.7x2.9mm_ThermalVias; Datasheet: http://www.ti.com/lit/ds/symlink/lmzm23600.pdf; Description_: 0.5A 5V Step-Down DC/DC Power Module in 3.8x3mm, MicroSIP-10
pins: 1 GND, 2 MODE/SYNC, 3 VIN, 4 EN, 5 PG, 6 VOUT, 7 FB, 8, 9, 10, 11 GND

## LMZM23601
designator *  value LMZM23601  Reference: U
1A Adjustable Step-Down DC/DC Power Module in 3.8x3mm, MicroSIP-10; ki_keywords: Step-Down DC/DC Module; ki_fp_filters: Texas*SIL*1EP*3.8x3mm*P0.6mm*; Footprint: Package_LGA:Texas_SIL0010A_MicroSiP-10-1EP_3.8x3mm_P0.6mm_EP0.7x2.9mm_ThermalVias; Datasheet: http://www.ti.com/lit/ds/symlink/lmzm23601.pdf; Description_: 1A Adjustable Step-Down DC/DC Power Module in 3.8x3mm, MicroSIP-10
pins: 1 GND, 2 MODE/SYNC, 3 VIN, 4 EN, 5 PG, 6 VOUT, 7 FB, 8, 9, 10, 11 GND

## LMZM23601V3
designator *  value LMZM23601V3  Reference: U
1A 3.3V Step-Down DC/DC Power Module in 3.8x3mm, MicroSIP-10; ki_keywords: Step-Down DC/DC Module; ki_fp_filters: Texas*SIL*1EP*3.8x3mm*P0.6mm*; Footprint: Package_LGA:Texas_SIL0010A_MicroSiP-10-1EP_3.8x3mm_P0.6mm_EP0.7x2.9mm_ThermalVias; Datasheet: http://www.ti.com/lit/ds/symlink/lmzm23601.pdf; Description_: 1A 3.3V Step-Down DC/DC Power Module in 3.8x3mm, MicroSIP-10
pins: 1 GND, 2 MODE/SYNC, 3 VIN, 4 EN, 5 PG, 6 VOUT, 7 FB, 8, 9, 10, 11 GND

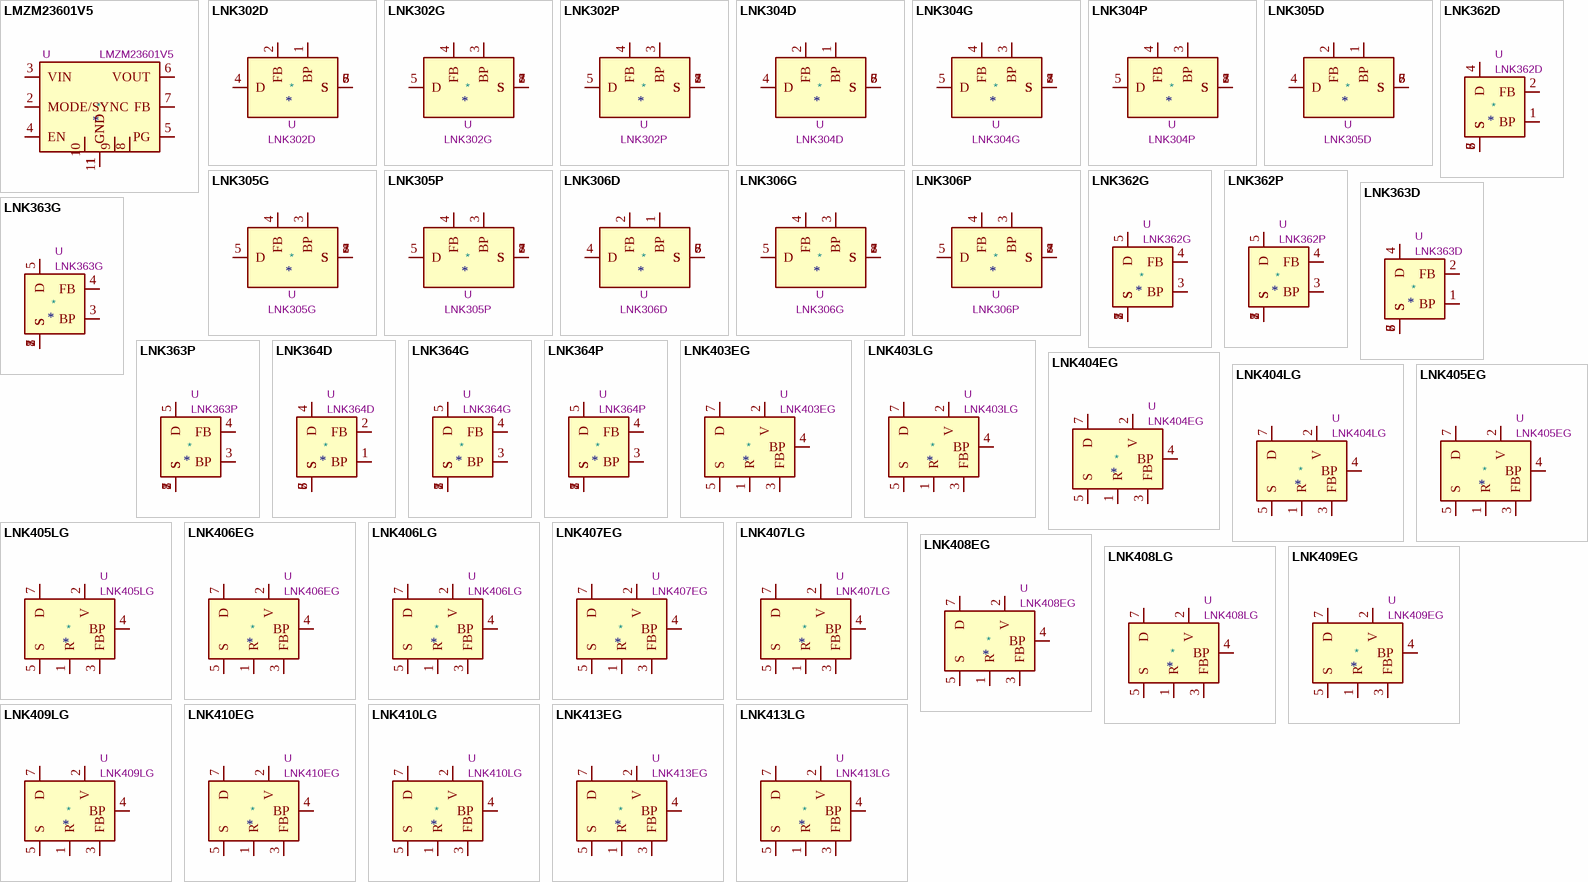
[diagram p9: symbols LMZM23601V5 to LNK413LG]

## LMZM23601V5
designator *  value LMZM23601V5  Reference: U
1A 5V Step-Down DC/DC Power Module in 3.8x3mm, MicroSIP-10; ki_keywords: Step-Down DC/DC Module; ki_fp_filters: Texas*SIL*1EP*3.8x3mm*P0.6mm*; Footprint: Package_LGA:Texas_SIL0010A_MicroSiP-10-1EP_3.8x3mm_P0.6mm_EP0.7x2.9mm_ThermalVias; Datasheet: http://www.ti.com/lit/ds/symlink/lmzm23601.pdf; Description_: 1A 5V Step-Down DC/DC Power Module in 3.8x3mm, MicroSIP-10
pins: 1 GND, 2 MODE/SYNC, 3 VIN, 4 EN, 5 PG, 6 VOUT, 7 FB, 8, 9, 10, 11 GND

## LNK302D
designator *  value LNK302D  Reference: U
LinkSwitch-TN Family, 80mA Output Current, SO-8C; ki_keywords: Lowest Component Count, Energy-Efficient Off-Line Switcher IC; ki_fp_filters: PowerIntegrations?SO?8B*; Footprint: Package_SO:PowerIntegrations_SO-8B; Datasheet: http://www.powerint.com/sites/default/files/product-docs/lnk302_304-306.pdf; Description_: LinkSwitch-TN Family, 80mA Output Current, SO-8C
pins: 1 BP, 2 FB, 4 D, 5 S, 6 S, 7 S, 8 S

## LNK302G
designator *  value LNK302G  Reference: U
LinkSwitch-TN Family, 80mA Output Current, SMD-8B; ki_keywords: Lowest Component Count, Energy-Efficient Off-Line Switcher IC; ki_fp_filters: PowerIntegrations?SMD?8B*; Footprint: Package_DIP:PowerIntegrations_SMD-8B; Datasheet: http://www.powerint.com/sites/default/files/product-docs/lnk302_304-306.pdf; Description_: LinkSwitch-TN Family, 80mA Output Current, SMD-8B
pins: 1 S, 2 S, 3 BP, 4 FB, 5 D, 7 S, 8 S

## LNK302P
designator *  value LNK302P  Reference: U
LinkSwitch-TN Family, 80mA Output Current, DIP-8B; ki_keywords: Lowest Component Count, Energy-Efficient Off-Line Switcher IC; ki_fp_filters: PowerIntegrations?PDIP?8B*; Footprint: Package_DIP:PowerIntegrations_PDIP-8B; Datasheet: http://www.powerint.com/sites/default/files/product-docs/lnk302_304-306.pdf; Description_: LinkSwitch-TN Family, 80mA Output Current, DIP-8B
pins: 1 S, 2 S, 3 BP, 4 FB, 5 D, 7 S, 8 S

## LNK304D
designator *  value LNK304D  Reference: U
LinkSwitch-TN Family, 170mA Output Current, SO-8C; ki_keywords: Lowest Component Count, Energy-Efficient Off-Line Switcher IC; ki_fp_filters: PowerIntegrations?SO?8B*; Footprint: Package_SO:PowerIntegrations_SO-8B; Datasheet: http://www.powerint.com/sites/default/files/product-docs/lnk302_304-306.pdf; Description_: LinkSwitch-TN Family, 170mA Output Current, SO-8C
pins: 1 BP, 2 FB, 4 D, 5 S, 6 S, 7 S, 8 S

## LNK304G
designator *  value LNK304G  Reference: U
LinkSwitch-TN Family, 170mA Output Current, SMD-8B; ki_keywords: Lowest Component Count, Energy-Efficient Off-Line Switcher IC; ki_fp_filters: PowerIntegrations?SMD?8B*; Footprint: Package_DIP:PowerIntegrations_SMD-8B; Datasheet: http://www.powerint.com/sites/default/files/product-docs/lnk302_304-306.pdf; Description_: LinkSwitch-TN Family, 170mA Output Current, SMD-8B
pins: 1 S, 2 S, 3 BP, 4 FB, 5 D, 7 S, 8 S

## LNK304P
designator *  value LNK304P  Reference: U
LinkSwitch-TN Family, 170mA Output Current, DIP-8B; ki_keywords: Lowest Component Count, Energy-Efficient Off-Line Switcher IC; ki_fp_filters: PowerIntegrations?PDIP?8B*; Footprint: Package_DIP:PowerIntegrations_PDIP-8B; Datasheet: http://www.powerint.com/sites/default/files/product-docs/lnk302_304-306.pdf; Description_: LinkSwitch-TN Family, 170mA Output Current, DIP-8B
pins: 1 S, 2 S, 3 BP, 4 FB, 5 D, 7 S, 8 S

## LNK305D
designator *  value LNK305D  Reference: U
LinkSwitch-TN Family, 280mA Output Current, SO-8C; ki_keywords: Lowest Component Count, Energy-Efficient Off-Line Switcher IC; ki_fp_filters: PowerIntegrations?SO?8B*; Footprint: Package_SO:PowerIntegrations_SO-8B; Datasheet: http://www.powerint.com/sites/default/files/product-docs/lnk302_304-306.pdf; Description_: LinkSwitch-TN Family, 280mA Output Current, SO-8C
pins: 1 BP, 2 FB, 4 D, 5 S, 6 S, 7 S, 8 S

## LNK305G
designator *  value LNK305G  Reference: U
LinkSwitch-TN Family, 280mA Output Current, SMD-8B; ki_keywords: Lowest Component Count, Energy-Efficient Off-Line Switcher IC; ki_fp_filters: PowerIntegrations?SMD?8B*; Footprint: Package_DIP:PowerIntegrations_SMD-8B; Datasheet: http://www.powerint.com/sites/default/files/product-docs/lnk302_304-306.pdf; Description_: LinkSwitch-TN Family, 280mA Output Current, SMD-8B
pins: 1 S, 2 S, 3 BP, 4 FB, 5 D, 7 S, 8 S

## LNK305P
designator *  value LNK305P  Reference: U
LinkSwitch-TN Family, 280mA Output Current, DIP-8B; ki_keywords: Lowest Component Count, Energy-Efficient Off-Line Switcher IC; ki_fp_filters: PowerIntegrations?PDIP?8B*; Footprint: Package_DIP:PowerIntegrations_PDIP-8B; Datasheet: http://www.powerint.com/sites/default/files/product-docs/lnk302_304-306.pdf; Description_: LinkSwitch-TN Family, 280mA Output Current, DIP-8B
pins: 1 S, 2 S, 3 BP, 4 FB, 5 D, 7 S, 8 S

## LNK306D
designator *  value LNK306D  Reference: U
LinkSwitch-TN Family, 360mA Output Current, SO-8C; ki_keywords: Lowest Component Count, Energy-Efficient Off-Line Switcher IC; ki_fp_filters: PowerIntegrations?SO?8B*; Footprint: Package_SO:PowerIntegrations_SO-8B; Datasheet: http://www.powerint.com/sites/default/files/product-docs/lnk302_304-306.pdf; Description_: LinkSwitch-TN Family, 360mA Output Current, SO-8C
pins: 1 BP, 2 FB, 4 D, 5 S, 6 S, 7 S, 8 S

## LNK306G
designator *  value LNK306G  Reference: U
LinkSwitch-TN Family, 360mA Output Current, SMD-8B; ki_keywords: Lowest Component Count, Energy-Efficient Off-Line Switcher IC; ki_fp_filters: PowerIntegrations?SMD?8B*; Footprint: Package_DIP:PowerIntegrations_SMD-8B; Datasheet: http://www.powerint.com/sites/default/files/product-docs/lnk302_304-306.pdf; Description_: LinkSwitch-TN Family, 360mA Output Current, SMD-8B
pins: 1 S, 2 S, 3 BP, 4 FB, 5 D, 7 S, 8 S

## LNK306P
designator *  value LNK306P  Reference: U
LinkSwitch-TN Family, 360mA Output Current, DIP-8B; ki_keywords: Lowest Component Count, Energy-Efficient Off-Line Switcher IC; ki_fp_filters: PowerIntegrations?PDIP?8B*; Footprint: Package_DIP:PowerIntegrations_PDIP-8B; Datasheet: http://www.powerint.com/sites/default/files/product-docs/lnk302_304-306.pdf; Description_: LinkSwitch-TN Family, 360mA Output Current, DIP-8B
pins: 1 S, 2 S, 3 BP, 4 FB, 5 D, 7 S, 8 S

## LNK362D
designator *  value LNK362D  Reference: U
LinkSwitch-XT Family, 2.6W Output Power, SO-8C; ki_keywords: Energy Effi cient, Low Power Off-Line Switcher IC; ki_fp_filters: PowerIntegrations?SO?8C*; Footprint: Package_SO:PowerIntegrations_SO-8C; Datasheet: http://www.powerint.com/sites/default/files/product-docs/lnk362-364.pdf; Description_: LinkSwitch-XT Family, 2.6W Output Power, SO-8C
pins: 1 BP, 2 FB, 4 D, 5 S, 6 S, 7 S, 8 S

## LNK362G
designator *  value LNK362G  Reference: U
LinkSwitch-XT Family, 2.6W Output Power, SMD-8B; ki_keywords: Energy Effi cient, Low Power Off-Line Switcher IC; ki_fp_filters: PowerIntegrations?SMD?8B*; Footprint: Package_DIP:PowerIntegrations_SMD-8B; Datasheet: http://www.powerint.com/sites/default/files/product-docs/lnk362-364.pdf; Description_: LinkSwitch-XT Family, 2.6W Output Power, SMD-8B
pins: 1 S, 2 S, 3 BP, 4 FB, 5 D, 7 S, 8 S

## LNK362P
designator *  value LNK362P  Reference: U
LinkSwitch-XT Family, 2.6W Output Power, DIP-8B; ki_keywords: Energy Effi cient, Low Power Off-Line Switcher IC; ki_fp_filters: PowerIntegrations?PDIP?8B*; Footprint: Package_DIP:PowerIntegrations_PDIP-8B; Datasheet: http://www.powerint.com/sites/default/files/product-docs/lnk362-364.pdf; Description_: LinkSwitch-XT Family, 2.6W Output Power, DIP-8B
pins: 1 S, 2 S, 3 BP, 4 FB, 5 D, 7 S, 8 S

## LNK363D
designator *  value LNK363D  Reference: U
LinkSwitch-XT Family, 4.7W Output Power, SO-8C; ki_keywords: Energy Effi cient, Low Power Off-Line Switcher IC; ki_fp_filters: PowerIntegrations?SO?8C*; Footprint: Package_SO:PowerIntegrations_SO-8C; Datasheet: http://www.powerint.com/sites/default/files/product-docs/lnk362-364.pdf; Description_: LinkSwitch-XT Family, 4.7W Output Power, SO-8C
pins: 1 BP, 2 FB, 4 D, 5 S, 6 S, 7 S, 8 S

## LNK363G
designator *  value LNK363G  Reference: U
LinkSwitch-XT Family, 4.7W Output Power, SMD-8B; ki_keywords: Energy Effi cient, Low Power Off-Line Switcher IC; ki_fp_filters: PowerIntegrations?SMD?8B*; Footprint: Package_DIP:PowerIntegrations_SMD-8B; Datasheet: http://www.powerint.com/sites/default/files/product-docs/lnk362-364.pdf; Description_: LinkSwitch-XT Family, 4.7W Output Power, SMD-8B
pins: 1 S, 2 S, 3 BP, 4 FB, 5 D, 7 S, 8 S

## LNK363P
designator *  value LNK363P  Reference: U
LinkSwitch-XT Family, 4.7W Output Power, DIP-8B; ki_keywords: Energy Effi cient, Low Power Off-Line Switcher IC; ki_fp_filters: PowerIntegrations?PDIP?8B*; Footprint: Package_DIP:PowerIntegrations_PDIP-8B; Datasheet: http://www.powerint.com/sites/default/files/product-docs/lnk362-364.pdf; Description_: LinkSwitch-XT Family, 4.7W Output Power, DIP-8B
pins: 1 S, 2 S, 3 BP, 4 FB, 5 D, 7 S, 8 S

## LNK364D
designator *  value LNK364D  Reference: U
LinkSwitch-XT Family, 6W Output Power, SO-8C; ki_keywords: Energy Effi cient, Low Power Off-Line Switcher IC; ki_fp_filters: PowerIntegrations?SO?8C*; Footprint: Package_SO:PowerIntegrations_SO-8C; Datasheet: http://www.powerint.com/sites/default/files/product-docs/lnk362-364.pdf; Description_: LinkSwitch-XT Family, 6W Output Power, SO-8C
pins: 1 BP, 2 FB, 4 D, 5 S, 6 S, 7 S, 8 S

## LNK364G
designator *  value LNK364G  Reference: U
LinkSwitch-XT Family, 6W Output Power, SMD-8B; ki_keywords: Energy Effi cient, Low Power Off-Line Switcher IC; ki_fp_filters: PowerIntegrations?SMD?8B*; Footprint: Package_DIP:PowerIntegrations_SMD-8B; Datasheet: http://www.powerint.com/sites/default/files/product-docs/lnk362-364.pdf; Description_: LinkSwitch-XT Family, 6W Output Power, SMD-8B
pins: 1 S, 2 S, 3 BP, 4 FB, 5 D, 7 S, 8 S

## LNK364P
designator *  value LNK364P  Reference: U
LinkSwitch-XT Family, 6W Output Power, DIP-8B; ki_keywords: Energy Effi cient, Low Power Off-Line Switcher IC; ki_fp_filters: PowerIntegrations?PDIP?8B*; Footprint: Package_DIP:PowerIntegrations_PDIP-8B; Datasheet: http://www.powerint.com/sites/default/files/product-docs/lnk362-364.pdf; Description_: LinkSwitch-XT Family, 6W Output Power, DIP-8B
pins: 1 S, 2 S, 3 BP, 4 FB, 5 D, 7 S, 8 S

## LNK403EG
designator *  value LNK403EG  Reference: U
LinkSwitch-PH Family, 12W Output Power, eSIP-7C; ki_keywords: LED Driver IC with TRIAC Dimming, Single-Stage PFC and Primary-Side Constant Current Control; ki_fp_filters: PowerIntegrations?eSIP?7C*; Footprint: Package_SIP:PowerIntegrations_eSIP-7C; Datasheet: http://www.powerint.com/sites/default/files/product-docs/linkswitch-ph_family_datasheet.pdf; Description_: LinkSwitch-PH Family, 12W Output Power, eSIP-7C
pins: 1 R, 2 V, 3 FB, 4 BP, 5 S, 7 D

## LNK403LG
designator *  value LNK403LG  Reference: U
LinkSwitch-PH Family, 12W Output Power, eSIP-7F; ki_keywords: LED Driver IC with TRIAC Dimming, Single-Stage PFC and Primary-Side Constant Current Control; ki_fp_filters: PowerIntegrations?eSIP?7F*; Footprint: Package_SIP:PowerIntegrations_eSIP-7F; Datasheet: http://www.powerint.com/sites/default/files/product-docs/linkswitch-ph_family_datasheet.pdf; Description_: LinkSwitch-PH Family, 12W Output Power, eSIP-7F
pins: 1 R, 2 V, 3 FB, 4 BP, 5 S, 7 D

## LNK404EG
designator *  value LNK404EG  Reference: U
LinkSwitch-PH Family, 15W Output Power, eSIP-7C; ki_keywords: LED Driver IC with TRIAC Dimming, Single-Stage PFC and Primary-Side Constant Current Control; ki_fp_filters: PowerIntegrations?eSIP?7C*; Footprint: Package_SIP:PowerIntegrations_eSIP-7C; Datasheet: http://www.powerint.com/sites/default/files/product-docs/linkswitch-ph_family_datasheet.pdf; Description_: LinkSwitch-PH Family, 15W Output Power, eSIP-7C
pins: 1 R, 2 V, 3 FB, 4 BP, 5 S, 7 D

## LNK404LG
designator *  value LNK404LG  Reference: U
LinkSwitch-PH Family, 15W Output Power, eSIP-7F; ki_keywords: LED Driver IC with TRIAC Dimming, Single-Stage PFC and Primary-Side Constant Current Control; ki_fp_filters: PowerIntegrations?eSIP?7F*; Footprint: Package_SIP:PowerIntegrations_eSIP-7F; Datasheet: http://www.powerint.com/sites/default/files/product-docs/linkswitch-ph_family_datasheet.pdf; Description_: LinkSwitch-PH Family, 15W Output Power, eSIP-7F
pins: 1 R, 2 V, 3 FB, 4 BP, 5 S, 7 D

## LNK405EG
designator *  value LNK405EG  Reference: U
LinkSwitch-PH Family, 18W Output Power, eSIP-7C; ki_keywords: LED Driver IC with TRIAC Dimming, Single-Stage PFC and Primary-Side Constant Current Control; ki_fp_filters: PowerIntegrations?eSIP?7C*; Footprint: Package_SIP:PowerIntegrations_eSIP-7C; Datasheet: http://www.powerint.com/sites/default/files/product-docs/linkswitch-ph_family_datasheet.pdf; Description_: LinkSwitch-PH Family, 18W Output Power, eSIP-7C
pins: 1 R, 2 V, 3 FB, 4 BP, 5 S, 7 D

## LNK405LG
designator *  value LNK405LG  Reference: U
LinkSwitch-PH Family, 18W Output Power, eSIP-7F; ki_keywords: LED Driver IC with TRIAC Dimming, Single-Stage PFC and Primary-Side Constant Current Control; ki_fp_filters: PowerIntegrations?eSIP?7F*; Footprint: Package_SIP:PowerIntegrations_eSIP-7F; Datasheet: http://www.powerint.com/sites/default/files/product-docs/linkswitch-ph_family_datasheet.pdf; Description_: LinkSwitch-PH Family, 18W Output Power, eSIP-7F
pins: 1 R, 2 V, 3 FB, 4 BP, 5 S, 7 D

## LNK406EG
designator *  value LNK406EG  Reference: U
LinkSwitch-PH Family, 22W Output Power, eSIP-7C; ki_keywords: LED Driver IC with TRIAC Dimming, Single-Stage PFC and Primary-Side Constant Current Control; ki_fp_filters: PowerIntegrations?eSIP?7C*; Footprint: Package_SIP:PowerIntegrations_eSIP-7C; Datasheet: http://www.powerint.com/sites/default/files/product-docs/linkswitch-ph_family_datasheet.pdf; Description_: LinkSwitch-PH Family, 22W Output Power, eSIP-7C
pins: 1 R, 2 V, 3 FB, 4 BP, 5 S, 7 D

## LNK406LG
designator *  value LNK406LG  Reference: U
LinkSwitch-PH Family, 22W Output Power, eSIP-7F; ki_keywords: LED Driver IC with TRIAC Dimming, Single-Stage PFC and Primary-Side Constant Current Control; ki_fp_filters: PowerIntegrations?eSIP?7F*; Footprint: Package_SIP:PowerIntegrations_eSIP-7F; Datasheet: http://www.powerint.com/sites/default/files/product-docs/linkswitch-ph_family_datasheet.pdf; Description_: LinkSwitch-PH Family, 22W Output Power, eSIP-7F
pins: 1 R, 2 V, 3 FB, 4 BP, 5 S, 7 D

## LNK407EG
designator *  value LNK407EG  Reference: U
LinkSwitch-PH Family, 25W Output Power, eSIP-7C; ki_keywords: LED Driver IC with TRIAC Dimming, Single-Stage PFC and Primary-Side Constant Current Control; ki_fp_filters: PowerIntegrations?eSIP?7C*; Footprint: Package_SIP:PowerIntegrations_eSIP-7C; Datasheet: http://www.powerint.com/sites/default/files/product-docs/linkswitch-ph_family_datasheet.pdf; Description_: LinkSwitch-PH Family, 25W Output Power, eSIP-7C
pins: 1 R, 2 V, 3 FB, 4 BP, 5 S, 7 D

## LNK407LG
designator *  value LNK407LG  Reference: U
LinkSwitch-PH Family, 25W Output Power, eSIP-7F; ki_keywords: LED Driver IC with TRIAC Dimming, Single-Stage PFC and Primary-Side Constant Current Control; ki_fp_filters: PowerIntegrations?eSIP?7F*; Footprint: Package_SIP:PowerIntegrations_eSIP-7F; Datasheet: http://www.powerint.com/sites/default/files/product-docs/linkswitch-ph_family_datasheet.pdf; Description_: LinkSwitch-PH Family, 25W Output Power, eSIP-7F
pins: 1 R, 2 V, 3 FB, 4 BP, 5 S, 7 D

## LNK408EG
designator *  value LNK408EG  Reference: U
LinkSwitch-PH Family, 35W Output Power, eSIP-7C; ki_keywords: LED Driver IC with TRIAC Dimming, Single-Stage PFC and Primary-Side Constant Current Control; ki_fp_filters: PowerIntegrations?eSIP?7C*; Footprint: Package_SIP:PowerIntegrations_eSIP-7C; Datasheet: http://www.powerint.com/sites/default/files/product-docs/linkswitch-ph_family_datasheet.pdf; Description_: LinkSwitch-PH Family, 35W Output Power, eSIP-7C
pins: 1 R, 2 V, 3 FB, 4 BP, 5 S, 7 D

## LNK408LG
designator *  value LNK408LG  Reference: U
LinkSwitch-PH Family, 35W Output Power, eSIP-7F; ki_keywords: LED Driver IC with TRIAC Dimming, Single-Stage PFC and Primary-Side Constant Current Control; ki_fp_filters: PowerIntegrations?eSIP?7F*; Footprint: Package_SIP:PowerIntegrations_eSIP-7F; Datasheet: http://www.powerint.com/sites/default/files/product-docs/linkswitch-ph_family_datasheet.pdf; Description_: LinkSwitch-PH Family, 35W Output Power, eSIP-7F
pins: 1 R, 2 V, 3 FB, 4 BP, 5 S, 7 D

## LNK409EG
designator *  value LNK409EG  Reference: U
LinkSwitch-PH Family, 50W Output Power, eSIP-7C; ki_keywords: LED Driver IC with TRIAC Dimming, Single-Stage PFC and Primary-Side Constant Current Control; ki_fp_filters: PowerIntegrations?eSIP?7C*; Footprint: Package_SIP:PowerIntegrations_eSIP-7C; Datasheet: http://www.powerint.com/sites/default/files/product-docs/linkswitch-ph_family_datasheet.pdf; Description_: LinkSwitch-PH Family, 50W Output Power, eSIP-7C
pins: 1 R, 2 V, 3 FB, 4 BP, 5 S, 7 D

## LNK409LG
designator *  value LNK409LG  Reference: U
LinkSwitch-PH Family, 50W Output Power, eSIP-7F; ki_keywords: LED Driver IC with TRIAC Dimming, Single-Stage PFC and Primary-Side Constant Current Control; ki_fp_filters: PowerIntegrations?eSIP?7F*; Footprint: Package_SIP:PowerIntegrations_eSIP-7F; Datasheet: http://www.powerint.com/sites/default/files/product-docs/linkswitch-ph_family_datasheet.pdf; Description_: LinkSwitch-PH Family, 50W Output Power, eSIP-7F
pins: 1 R, 2 V, 3 FB, 4 BP, 5 S, 7 D

## LNK410EG
designator *  value LNK410EG  Reference: U
LinkSwitch-PH Family, 78W Output Power, eSIP-7C; ki_keywords: LED Driver IC with TRIAC Dimming, Single-Stage PFC and Primary-Side Constant Current Control; ki_fp_filters: PowerIntegrations?eSIP?7C*; Footprint: Package_SIP:PowerIntegrations_eSIP-7C; Datasheet: http://www.powerint.com/sites/default/files/product-docs/linkswitch-ph_family_datasheet.pdf; Description_: LinkSwitch-PH Family, 78W Output Power, eSIP-7C
pins: 1 R, 2 V, 3 FB, 4 BP, 5 S, 7 D

## LNK410LG
designator *  value LNK410LG  Reference: U
LinkSwitch-PH Family, 78W Output Power, eSIP-7F; ki_keywords: LED Driver IC with TRIAC Dimming, Single-Stage PFC and Primary-Side Constant Current Control; ki_fp_filters: PowerIntegrations?eSIP?7F*; Footprint: Package_SIP:PowerIntegrations_eSIP-7F; Datasheet: http://www.powerint.com/sites/default/files/product-docs/linkswitch-ph_family_datasheet.pdf; Description_: LinkSwitch-PH Family, 78W Output Power, eSIP-7F
pins: 1 R, 2 V, 3 FB, 4 BP, 5 S, 7 D

## LNK413EG
designator *  value LNK413EG  Reference: U
LinkSwitch-PH Family, 12W Output Power, eSIP-7C; ki_keywords: LED Driver IC, Single-Stage PFC and Primary-Side Constant Current Control; ki_fp_filters: PowerIntegrations?eSIP?7C*; Footprint: Package_SIP:PowerIntegrations_eSIP-7C; Datasheet: http://www.powerint.com/sites/default/files/product-docs/linkswitch-ph_family_datasheet.pdf; Description_: LinkSwitch-PH Family, 12W Output Power, eSIP-7C
pins: 1 R, 2 V, 3 FB, 4 BP, 5 S, 7 D

## LNK413LG
designator *  value LNK413LG  Reference: U
LinkSwitch-PH Family, 12W Output Power, eSIP-7F; ki_keywords: LED Driver IC, Single-Stage PFC and Primary-Side Constant Current Control; ki_fp_filters: PowerIntegrations?eSIP?7F*; Footprint: Package_SIP:PowerIntegrations_eSIP-7F; Datasheet: http://www.powerint.com/sites/default/files/product-docs/linkswitch-ph_family_datasheet.pdf; Description_: LinkSwitch-PH Family, 12W Output Power, eSIP-7F
pins: 1 R, 2 V, 3 FB, 4 BP, 5 S, 7 D

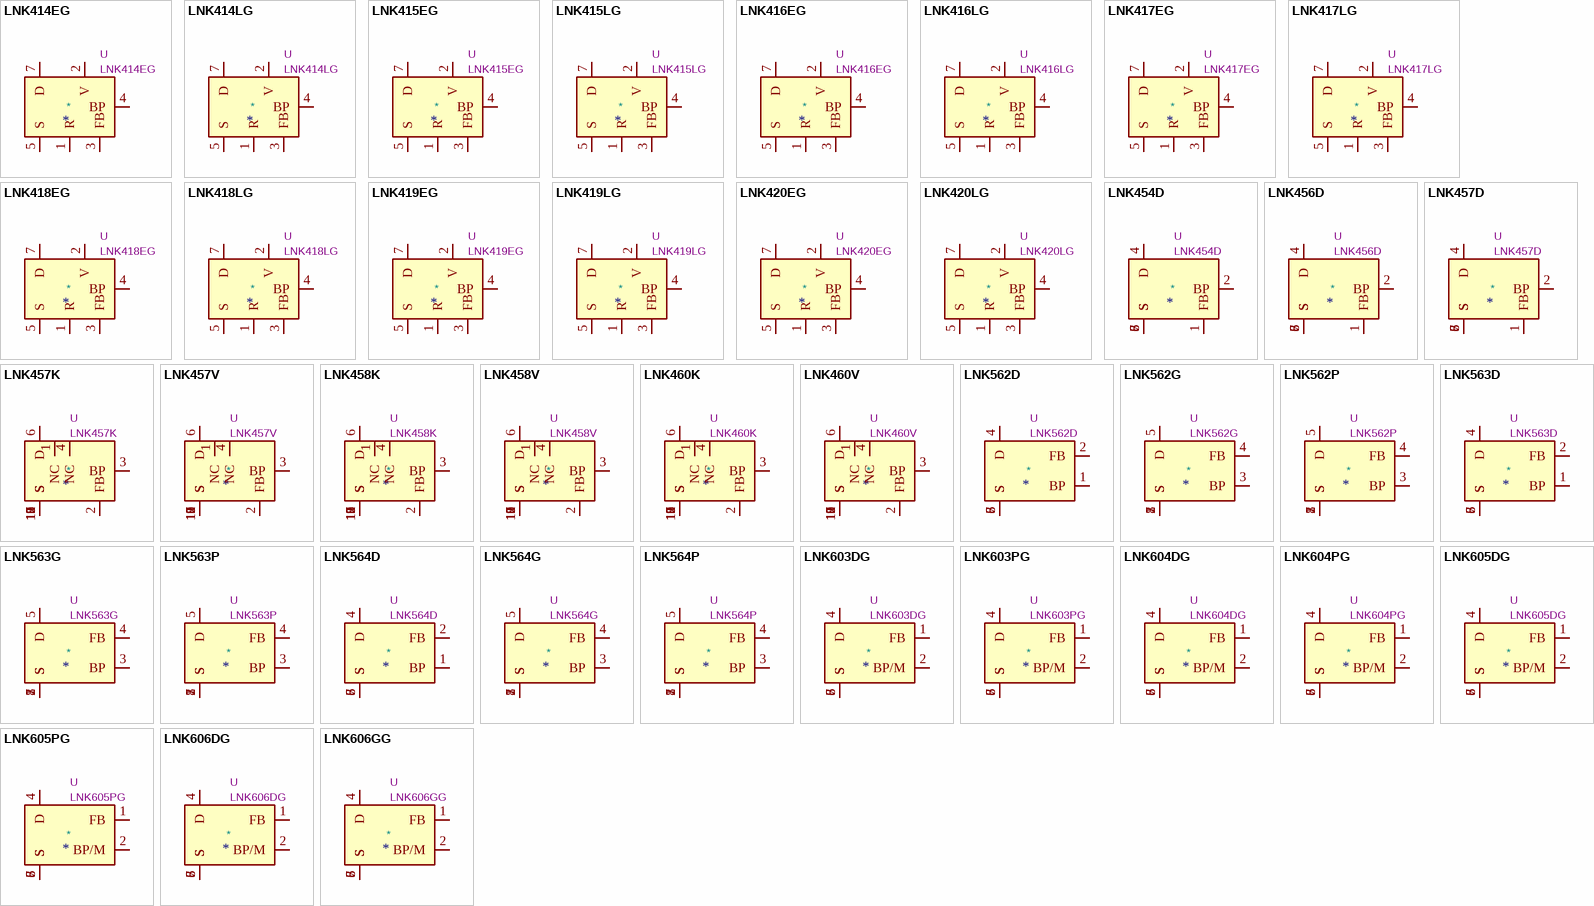
[diagram p10: symbols LNK414EG to LNK606GG]

## LNK414EG
designator *  value LNK414EG  Reference: U
LinkSwitch-PH Family, 15W Output Power, eSIP-7C; ki_keywords: LED Driver IC, Single-Stage PFC and Primary-Side Constant Current Control; ki_fp_filters: PowerIntegrations?eSIP?7C*; Footprint: Package_SIP:PowerIntegrations_eSIP-7C; Datasheet: http://www.powerint.com/sites/default/files/product-docs/linkswitch-ph_family_datasheet.pdf; Description_: LinkSwitch-PH Family, 15W Output Power, eSIP-7C
pins: 1 R, 2 V, 3 FB, 4 BP, 5 S, 7 D

## LNK414LG
designator *  value LNK414LG  Reference: U
LinkSwitch-PH Family, 15W Output Power, eSIP-7F; ki_keywords: LED Driver IC, Single-Stage PFC and Primary-Side Constant Current Control; ki_fp_filters: PowerIntegrations?eSIP?7F*; Footprint: Package_SIP:PowerIntegrations_eSIP-7F; Datasheet: http://www.powerint.com/sites/default/files/product-docs/linkswitch-ph_family_datasheet.pdf; Description_: LinkSwitch-PH Family, 15W Output Power, eSIP-7F
pins: 1 R, 2 V, 3 FB, 4 BP, 5 S, 7 D

## LNK415EG
designator *  value LNK415EG  Reference: U
LinkSwitch-PH Family, 18W Output Power, eSIP-7C; ki_keywords: LED Driver IC, Single-Stage PFC and Primary-Side Constant Current Control; ki_fp_filters: PowerIntegrations?eSIP?7C*; Footprint: Package_SIP:PowerIntegrations_eSIP-7C; Datasheet: http://www.powerint.com/sites/default/files/product-docs/linkswitch-ph_family_datasheet.pdf; Description_: LinkSwitch-PH Family, 18W Output Power, eSIP-7C
pins: 1 R, 2 V, 3 FB, 4 BP, 5 S, 7 D

## LNK415LG
designator *  value LNK415LG  Reference: U
LinkSwitch-PH Family, 18W Output Power, eSIP-7F; ki_keywords: LED Driver IC, Single-Stage PFC and Primary-Side Constant Current Control; ki_fp_filters: PowerIntegrations?eSIP?7F*; Footprint: Package_SIP:PowerIntegrations_eSIP-7F; Datasheet: http://www.powerint.com/sites/default/files/product-docs/linkswitch-ph_family_datasheet.pdf; Description_: LinkSwitch-PH Family, 18W Output Power, eSIP-7F
pins: 1 R, 2 V, 3 FB, 4 BP, 5 S, 7 D

## LNK416EG
designator *  value LNK416EG  Reference: U
LinkSwitch-PH Family, 22W Output Power, eSIP-7C; ki_keywords: LED Driver IC, Single-Stage PFC and Primary-Side Constant Current Control; ki_fp_filters: PowerIntegrations?eSIP?7C*; Footprint: Package_SIP:PowerIntegrations_eSIP-7C; Datasheet: http://www.powerint.com/sites/default/files/product-docs/linkswitch-ph_family_datasheet.pdf; Description_: LinkSwitch-PH Family, 22W Output Power, eSIP-7C
pins: 1 R, 2 V, 3 FB, 4 BP, 5 S, 7 D